# Altium footprint library MECH_SPACER_MALE_FEMALE_18MM_M3.PcbLib: 1 footprints
Each footprint in its own frame and in the unit in brackets; x right, y up, seen from the top. Pads: shape width x height; smd on the part's side, far side on the other; paste and mask are expansions set on the pad; w line width, h text height; cw(c..) or ccw(c..) is an arc to the next point about the centre after c.
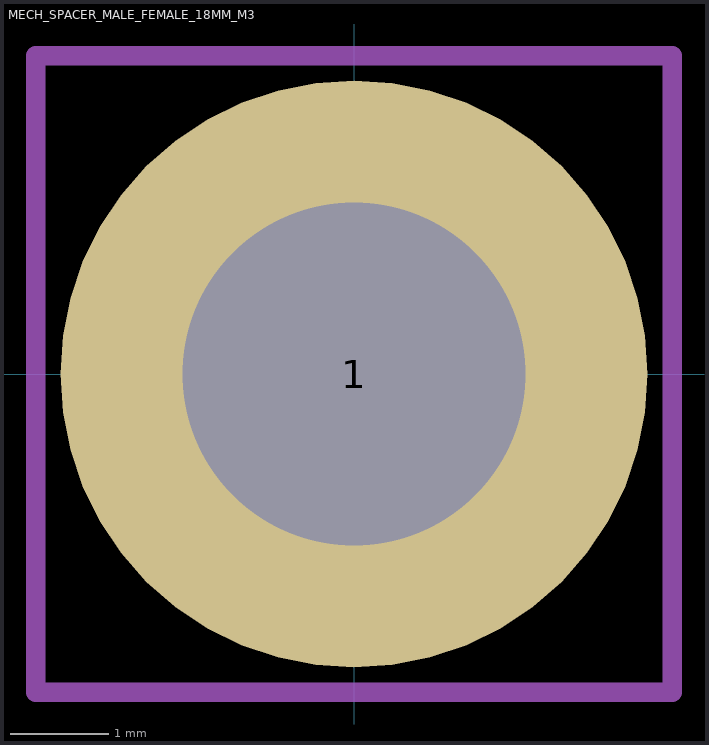
[diagram p0: the footprint, top view; thin cyan lines are the x and y axes]

## MECH_SPACER_MALE_FEMALE_18MM_M3 [mm]
pads (1):
  round 6 hole 3.5: 1(0,0)
Mechanical 15:
  lines w0.2: -0.5,0 0.5,0 ; 0,-0.5 0,0.5 ; -3.25,-3.25 3.25,-3.25 3.25,3.25 -3.25,3.25 -3.25,-3.25
Mechanical 17:
  text ".Designator" at -2.5,-0.5 h1.27
Mechanical 19:
  text "'.Comment'" at -3.341,-0.5 h1.27
3D body "Hex Spacer MF M3 L18mm.stp": height 18, standoff -6, extent -2.5,-2.887 2.5,2.887